# EAGLE library part MACETECH_JS202011AQN (library RGBShadesControllerV30)
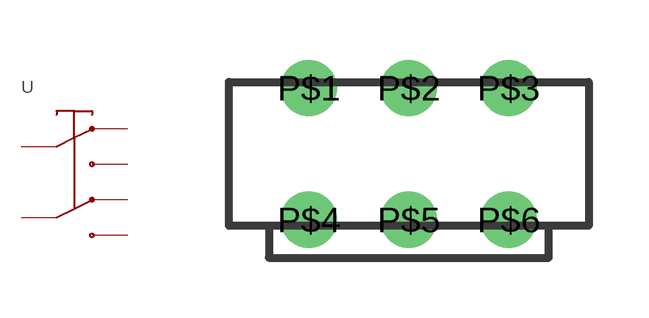
[diagram p2: symbol with the pads of MACETECH_JS202011AQN; footprint MACETECH_JS202011AQN]

Designator prefix -

## MACETECH_JS202011AQN  [MACETECH_JS202011AQN]
P$1  1
P$2  2
P$3  3
P$4  4
P$5  5
P$6  6

## Footprint MACETECH_JS202011AQN (pad centres in mm)
drill 0.9: P$1 -2.5,1.65; P$2 0,1.65; P$3 2.5,1.65; P$4 -2.5,-1.65; P$5 0,-1.65; P$6 2.5,-1.65